# EAGLE library part 16PINFFC (library general)
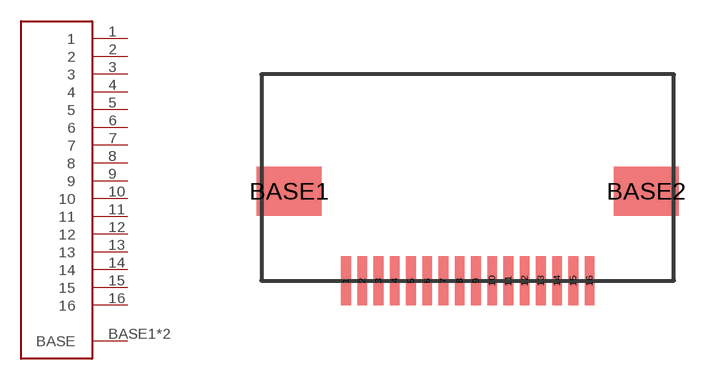
[diagram p2: symbol with the pads of 16PINFFC; footprint 16PINFFC]

Designator prefix -

## 16PINFFC  [16PINFFC]
1  1
2  2
3  3
4  4
5  5
6  6
7  7
8  8
9  9
10  10
11  11
12  12
13  13
14  14
15  15
16  16
BASE1  BASE
BASE2  BASE

## Footprint 16PINFFC (pad centres in mm)
smd 0.3 x 1.5: 1 -3.75,0; 2 -3.25,0; 3 -2.75,0; 4 -2.25,0; 5 -1.75,0; 6 -1.25,0; 7 -0.75,0; 8 -0.25,0; 9 0.25,0; 10 0.75,0; 11 1.25,0; 12 1.75,0; 13 2.25,0; 14 2.75,0; 15 3.25,0; 16 3.75,0
smd 2 x 1.5: BASE1 -5.5,2.75; BASE2 5.5,2.75